# Altium integrated library Zarlink Comm PCM Circuit.IntLib: 10 symbols
Pins are listed as number, name and electrical type; pins without a type are passive.

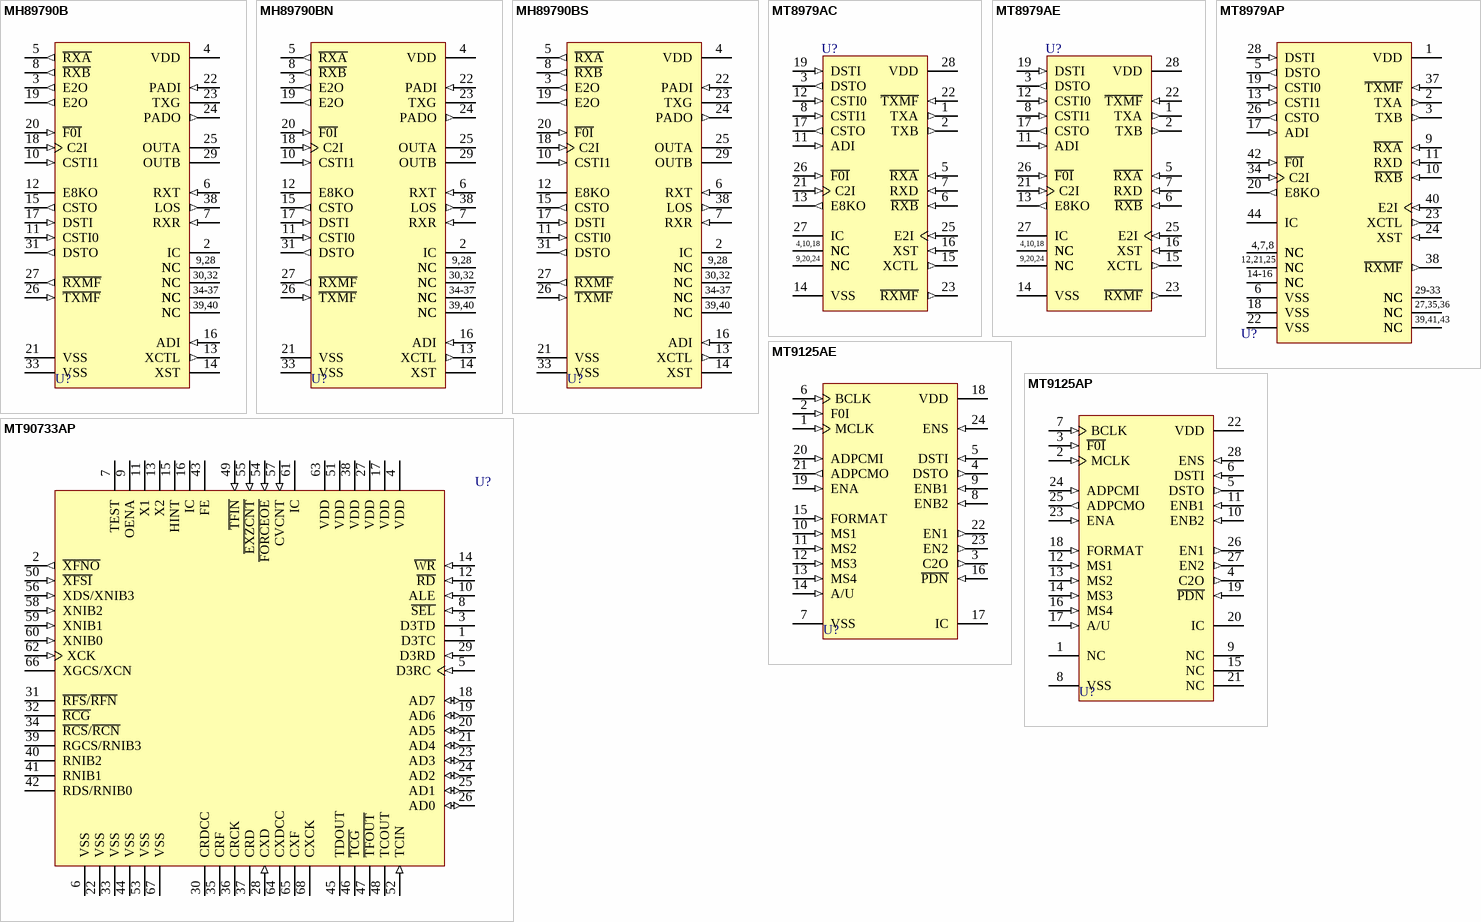
[diagram p0: symbols MH89790B to MT90733AP]

## MH89790B
designator U?
CEPT PCM 30/CRC-4 Framer & Interface; Note: Pin 1 is not present; Published: 8-Jun-2000; LatestRevisionDate: 17-Jul-2002; LatestRevisionNote: Re-released for DXP Platform.; DatasheetVersion: Issue 5 May 1995; PackageReference: DIL40B; Publisher: Altium Limited; PackageDescription: DIP; 40 Leads (1 Absent); Row Spacing 33 mm; Pitch 2.54 mm; ComponentLink1Description: Manufacturer Link; ComponentLink1URL: http://www.zarlink.com/; ComponentLink2Description: Datasheet; ComponentLink2URL: http://assets.zarlink.com/DS/zarlink_MH89790B_APR_03.pdf
footprint DIL40B (DIP; 40 Leads (1 Absent); Row Spacing 33 mm; Pitch 2.54 mm)
pins: 2 IC, 3 E2O (out), 4 VDD (power), 5 ~{RXA} (out), 6 RXT (in), 7 RXR (in), 8 ~{RXB} (out), 9 NC, 10 CSTI1 (in), 11 CSTI0 (in), 12 E8KO (hiz), 13 XCTL (out), 14 XST, 15 CSTO (out), 16 ADI (in), 17 DSTI (in), 18 C2I (in), 19 E2O (out), 20 ~{F0I} (in), 21 VSS (power), 22 PADI (in), 23 TXG, 24 PADO (out), 25 OUTA (oc), 26 ~{TXMF} (in), 27 ~{RXMF} (out), 28 NC, 29 OUTB (oc), 30 NC, 31 DSTO (out), 32 NC, 33 VSS (power), 34 NC, 35 NC, 36 NC, 37 NC, 38 LOS (out), 39 NC, 40 NC
text: 9,28; 30,32; 34-37; 39,40

## MH89790BN
designator U?
CEPT PCM 30/CRC-4 Framer & Interface; Note: Pin 1 is not present; Published: 8-Jun-2000; LatestRevisionDate: 17-Jul-2002; LatestRevisionNote: Re-released for DXP Platform.; DatasheetVersion: Issue 5 May 1995; PackageReference: DIL40C; Publisher: Altium Limited; PackageDescription: DIP; 40 Leads (1 Absent); Row Spacing 20.32 mm; Pitch 2.54 mm; ComponentLink1Description: Manufacturer Link; ComponentLink1URL: http://www.zarlink.com/; ComponentLink2Description: Datasheet; ComponentLink2URL: http://assets.zarlink.com/DS/zarlink_MH89790B_APR_03.pdf
footprint DIL40C (DIP; 40 Leads (1 Absent); Row Spacing 20.32 mm; Pitch 2.54 mm)
pins: 2 IC, 3 E2O (out), 4 VDD (power), 5 ~{RXA} (out), 6 RXT (in), 7 RXR (in), 8 ~{RXB} (out), 9 NC, 10 CSTI1 (in), 11 CSTI0 (in), 12 E8KO (hiz), 13 XCTL (out), 14 XST, 15 CSTO (out), 16 ADI (in), 17 DSTI (in), 18 C2I (in), 19 E2O (out), 20 ~{F0I} (in), 21 VSS (power), 22 PADI (in), 23 TXG, 24 PADO (out), 25 OUTA (oc), 26 ~{TXMF} (in), 27 ~{RXMF} (out), 28 NC, 29 OUTB (oc), 30 NC, 31 DSTO (out), 32 NC, 33 VSS (power), 34 NC, 35 NC, 36 NC, 37 NC, 38 LOS (out), 39 NC, 40 NC
text: 9,28; 30,32; 34-37; 39,40

## MH89790BS
designator U?
CEPT PCM 30/CRC-4 Framer & Interface; Note: Pin 1 is not present; Published: 8-Jun-2000; LatestRevisionDate: 13-Apr-2006; LatestRevisionNote: IPC-7351 Footprint Added.; DatasheetVersion: Issue 5 May 1995; PackageReference: DIL40D; Publisher: Altium Limited; PackageDescription: 40-Pin Small Outline Package 2.54 mm Pitch; ComponentLink1Description: Manufacturer Link; ComponentLink1URL: http://www.zarlink.com/; ComponentLink2Description: Datasheet; ComponentLink2URL: http://assets.zarlink.com/DS/zarlink_MH89790B_APR_03.pdf
footprint DIL40D_N (SOP, 40-Leads, Body 50.8x16.7mm, Pitch 2.54mm, IPC Medium Density)
footprint DIL40D_L (SOP, 40-Leads, Body 50.8x16.7mm, Pitch 2.54mm, IPC High Density)
footprint DIL40D_M (SOP, 40-Leads, Body 50.8x16.7mm, Pitch 2.54mm, IPC Low Density)
pins: 2 IC, 3 E2O (out), 4 VDD (power), 5 ~{RXA} (out), 6 RXT (in), 7 RXR (in), 8 ~{RXB} (out), 9 NC, 10 CSTI1 (in), 11 CSTI0 (in), 12 E8KO (hiz), 13 XCTL (out), 14 XST, 15 CSTO (out), 16 ADI (in), 17 DSTI (in), 18 C2I (in), 19 E2O (out), 20 ~{F0I} (in), 21 VSS (power), 22 PADI (in), 23 TXG, 24 PADO (out), 25 OUTA (oc), 26 ~{TXMF} (in), 27 ~{RXMF} (out), 28 NC, 29 OUTB (oc), 30 NC, 31 DSTO (out), 32 NC, 33 VSS (power), 34 NC, 35 NC, 36 NC, 37 NC, 38 LOS (out), 39 NC, 40 NC
text: 9,28; 30,32; 34-37; 39,40

## MT8979AC
designator U?
CEPT PCM 30/CRC-4 Framer & Interface; Note: Tie pin 27 to VSS for normal operation; Published: 8-Jun-2000; LatestRevisionDate: 17-Jul-2002; LatestRevisionNote: Re-released for DXP Platform.; DatasheetVersion: Issue 7 May 1995; PackageVersion: 1995; PackageReference: CDIP28; Publisher: Altium Limited; PackageDescription: DIP; 28 Leads; Row Spacing 15.24 mm; Pitch 2.54 mm; ComponentLink1Description: Manufacturer Link; ComponentLink1URL: http://www.zarlink.com/; ComponentLink2Description: Datasheet; ComponentLink2URL: http://assets.zarlink.com/DS/zarlink_MT8979_FEB_05.pdf
footprint CDIP28 (DIP; 28 Leads; Row Spacing 15.24 mm; Pitch 2.54 mm)
pins: 1 TXA (out), 2 TXB (out), 3 DSTO (out), 4 NC, 5 ~{RXA} (in), 6 ~{RXB} (in), 7 RXD (in), 8 CSTI1 (in), 9 NC, 10 NC, 11 ADI (in), 12 CSTI0 (in), 13 E8KO (out), 14 VSS (power), 15 XCTL (out), 16 XST (in), 17 CSTO (out), 18 NC, 19 DSTI (in), 20 NC, 21 C2I (in), 22 ~{TXMF} (in), 23 ~{RXMF} (out), 24 NC, 25 E2I (in), 26 ~{F0I} (in), 27 IC, 28 VDD (power)
text: 4,10,18; 9,20,24

## MT8979AE
designator U?
CEPT PCM 30/CRC-4 Framer & Interface; Note: Tie pin 27 to VSS for normal operation; Published: 8-Jun-2000; LatestRevisionDate: 17-Jul-2002; LatestRevisionNote: Re-released for DXP Platform.; DatasheetVersion: Issue 8 March 1997; PackageVersion: 1997; PackageReference: PDIP28; Publisher: Altium Limited; PackageDescription: DIP; 28 Leads; Row Spacing 15.24 mm; Pitch 2.54 mm; Code_JEDEC: MS-011-AB; ComponentLink1Description: Manufacturer Link; ComponentLink1URL: http://www.zarlink.com/; ComponentLink2Description: Datasheet; ComponentLink2URL: http://assets.zarlink.com/DS/zarlink_MT8979_FEB_05.pdf
footprint PDIP28 (DIP; 28 Leads; Row Spacing 15.24 mm; Pitch 2.54 mm)
pins: 1 TXA (out), 2 TXB (out), 3 DSTO (out), 4 NC, 5 ~{RXA} (in), 6 ~{RXB} (in), 7 RXD (in), 8 CSTI1 (in), 9 NC, 10 NC, 11 ADI (in), 12 CSTI0 (in), 13 E8KO (out), 14 VSS (power), 15 XCTL (out), 16 XST (in), 17 CSTO (out), 18 NC, 19 DSTI (in), 20 NC, 21 C2I (in), 22 ~{TXMF} (in), 23 ~{RXMF} (out), 24 NC, 25 E2I (in), 26 ~{F0I} (in), 27 IC, 28 VDD (power)
text: 4,10,18; 9,20,24

## MT8979AP
designator U?
CEPT PCM 30/CRC-4 Framer & Interface; Note: Tie pin 44 to VSS for normal operation; Published: 8-Jun-2000; LatestRevisionDate: 13-Apr-2006; LatestRevisionNote: IPC-7351 Footprint Added.; DatasheetVersion: Issue 8 March 1997; PackageVersion: 1997; PackageReference: PLCC44; Publisher: Altium Limited; PackageDescription: 44-Pin Leaded Chip Carrier 1.27 mm Pitch; Code_IPC: PLCC-44; ComponentLink1Description: Manufacturer Link; ComponentLink1URL: http://www.zarlink.com/; ComponentLink2Description: Datasheet; ComponentLink2URL: http://assets.zarlink.com/DS/zarlink_MT8979_FEB_05.pdf
footprint PLCC44_N (Leaded Chip Carrier, 44-Leads, Body 16.6x16.6mm, Pitch 1.27mm, IPC Medium Density)
footprint PLCC44_L (Leaded Chip Carrier, 44-Leads, Body 16.6x16.6mm, Pitch 1.27mm, IPC High Density)
footprint PLCC44_M (Leaded Chip Carrier, 44-Leads, Body 16.6x16.6mm, Pitch 1.27mm, IPC Low Density)
pins: 1 VDD (power), 2 TXA (out), 3 TXB (out), 4 NC, 5 DSTO (out), 6 VSS (power), 7 NC, 8 NC, 9 ~{RXA} (in), 10 ~{RXB} (in), 11 RXD (in), 12 NC, 13 CSTI1 (in), 14 NC, 15 NC, 16 NC, 17 ADI (in), 18 VSS (power), 19 CSTI0 (in), 20 E8KO (out), 21 NC, 22 VSS (power), 23 XCTL (out), 24 XST (in), 25 NC, 26 CSTO (out), 27 NC, 28 DSTI (in), 29 NC, 30 NC, 31 NC, 32 NC, 33 NC, 34 C2I (in), 35 NC, 36 NC, 37 ~{TXMF} (in), 38 ~{RXMF} (out), 39 NC, 40 E2I (in), 41 NC, 42 ~{F0I} (in), 43 NC, 44 IC
text: 4,7,8; 12,21,25; 14-16; 29-33; 27,35,36; 39,41,43

## MT9125AE
designator U?
Dual ADPCM Transcoder; Note: Tie pin 17 to VSS for normal operation; Published: 8-Jun-2000; LatestRevisionDate: 17-Jul-2002; LatestRevisionNote: Re-released for DXP Platform.; DatasheetVersion: Issue 3 August 1993; PackageVersion: 1997; PackageReference: PDIP24; Publisher: Altium Limited; PackageDescription: DIP; 24 Leads; Row Spacing 15.24 mm; Pitch 2.54 mm; Code_JEDEC: MS-011-AA; ComponentLink1Description: Manufacturer Link; ComponentLink1URL: http://www.zarlink.com/; ComponentLink2Description: Datasheet; ComponentLink2URL: http://assets.zarlink.com/DS/zarlink_MT9125_JAN_01.pdf
footprint PDIP24 (DIP; 24 Leads; Row Spacing 15.24 mm; Pitch 2.54 mm)
pins: 1 MCLK (in), 2 F0I (in), 3 C2O (out), 4 DSTO (out), 5 DSTI (in), 6 BCLK (in), 7 VSS (power), 8 ENB2 (in), 9 ENB1 (in), 10 MS1 (in), 11 MS2 (in), 12 MS3 (in), 13 MS4 (in), 14 A/U (in), 15 FORMAT (in), 16 ~{PDN} (in), 17 IC, 18 VDD (power), 19 ENA (in), 20 ADPCMI (in), 21 ADPCMO (out), 22 EN1 (out), 23 EN2 (out), 24 ENS (in)

## MT9125AP
designator U?
Dual ADPCM Transcoder; Note: Tie pin 20 to VSS for normal operation; Published: 8-Jun-2000; LatestRevisionDate: 13-Apr-2006; LatestRevisionNote: IPC-7351 Footprint Added.; DatasheetVersion: Issue 3 August 1993; PackageVersion: 1997; PackageReference: PLCC28; Publisher: Altium Limited; PackageDescription: 28-Pin Leaded Chip Carrier 1.27 mm Pitch; Code_IPC: PLCC-28; ComponentLink1Description: Manufacturer Link; ComponentLink1URL: http://www.zarlink.com/; ComponentLink2Description: Datasheet; ComponentLink2URL: http://assets.zarlink.com/DS/zarlink_MT9125_JAN_01.pdf
footprint PLCC28_N (Leaded Chip Carrier, 28-Leads, Body 11.5x11.5mm, Pitch 1.27mm, IPC Medium Density)
footprint PLCC28_L (Leaded Chip Carrier, 28-Leads, Body 11.5x11.5mm, Pitch 1.27mm, IPC High Density)
footprint PLCC28_M (Leaded Chip Carrier, 28-Leads, Body 11.5x11.5mm, Pitch 1.27mm, IPC Low Density)
pins: 1 NC, 2 MCLK (in), 3 ~{F0I} (in), 4 C2O (out), 5 DSTO (out), 6 DSTI (in), 7 BCLK (in), 8 VSS (power), 9 NC, 10 ENB2 (in), 11 ENB1 (in), 12 MS1 (in), 13 MS2 (in), 14 MS3 (in), 15 NC, 16 MS4 (in), 17 A/U (in), 18 FORMAT (in), 19 ~{PDN} (in), 20 IC, 21 NC, 22 VDD (power), 23 ENA (in), 24 ADPCMI (in), 25 ADPCMO (out), 26 EN1 (out), 27 EN2 (out), 28 ENS (in)

## MT90733AP
designator U?
DS3 Framer (DS3F); Note: Pins 7 and 16 should be left open;  pin 61 is set to HIGH for normsl operation.; Published: 8-Jun-2000; LatestRevisionDate: 13-Apr-2006; LatestRevisionNote: IPC-7351 Footprint Added.; DatasheetVersion: Issue 3 January 1996; PackageVersion: 1997; PackageReference: PLCC68; Publisher: Altium Limited; PackageDescription: 68-Pin Leaded Chip Carrier 1.27 mm Pitch; Code_IPC: PLCC-68; ComponentLink1Description: Manufacturer Link; ComponentLink1URL: http://www.zarlink.com/
footprint PLCC68_N (Leaded Chip Carrier, 68-Leads, Body 24x24mm, Pitch 1.27mm, IPC Medium Density)
footprint PLCC68_L (Leaded Chip Carrier, 68-Leads, Body 24x24mm, Pitch 1.27mm, IPC High Density)
footprint PLCC68_M (Leaded Chip Carrier, 68-Leads, Body 24x24mm, Pitch 1.27mm, IPC Low Density)
pins: 1 D3TC (hiz), 2 ~{XFNO} (out), 3 D3TD (hiz), 4 VDD (power), 5 D3RC (in), 6 VSS (power), 7 TEST, 8 ~{SEL} (in), 9 OENA (hiz), 10 ALE (in), 11 X1 (hiz), 12 ~{RD} (in), 13 X2 (hiz), 14 ~{WR} (in), 15 HINT (hiz), 16 IC, 17 VDD (power), 18 AD7 (io), 19 AD6 (io), 20 AD5 (io), 21 AD4 (io), 22 VSS (power), 23 AD3 (io), 24 AD2 (io), 25 AD1 (io), 26 AD0 (io), 27 VDD (power), 28 CXD (in), 29 D3RD (in), 30 CRDCC (hiz), 31 ~{RFS}/~{RFN} (hiz), 32 ~{RCG} (hiz), 33 VSS (power), 34 ~{RCS}/~{RCN} (hiz), 35 CRF (hiz), 36 CRCK (hiz), 37 CRD (hiz), 38 VDD (power), 39 RGCS/RNIB3 (hiz), 40 RNIB2 (hiz), 41 RNIB1 (hiz), 42 RDS/RNIB0 (hiz), 43 FE (hiz), 44 VSS (power), 45 TDOUT (hiz), 46 ~{TCG} (hiz), 47 ~{TFOUT} (hiz), 48 TCOUT (hiz), 49 ~{TFIN} (in), 50 ~{XFSI} (in), 51 VDD (power), 52 TCIN (in), 53 VSS (power), 54 ~{FORCEOE} (in), 55 ~{EXZCNT} (in), 56 XDS/XNIB3 (in), 57 CVCNT (in), 58 XNIB2 (in), 59 XNIB1 (in), 60 XNIB0 (in), 61 IC, 62 XCK (in), 63 VDD (power), 64 CXDCC (hiz), 65 CXF (hiz), 66 XGCS/XCN (hiz), 67 VSS (power), 68 CXCK (hiz)

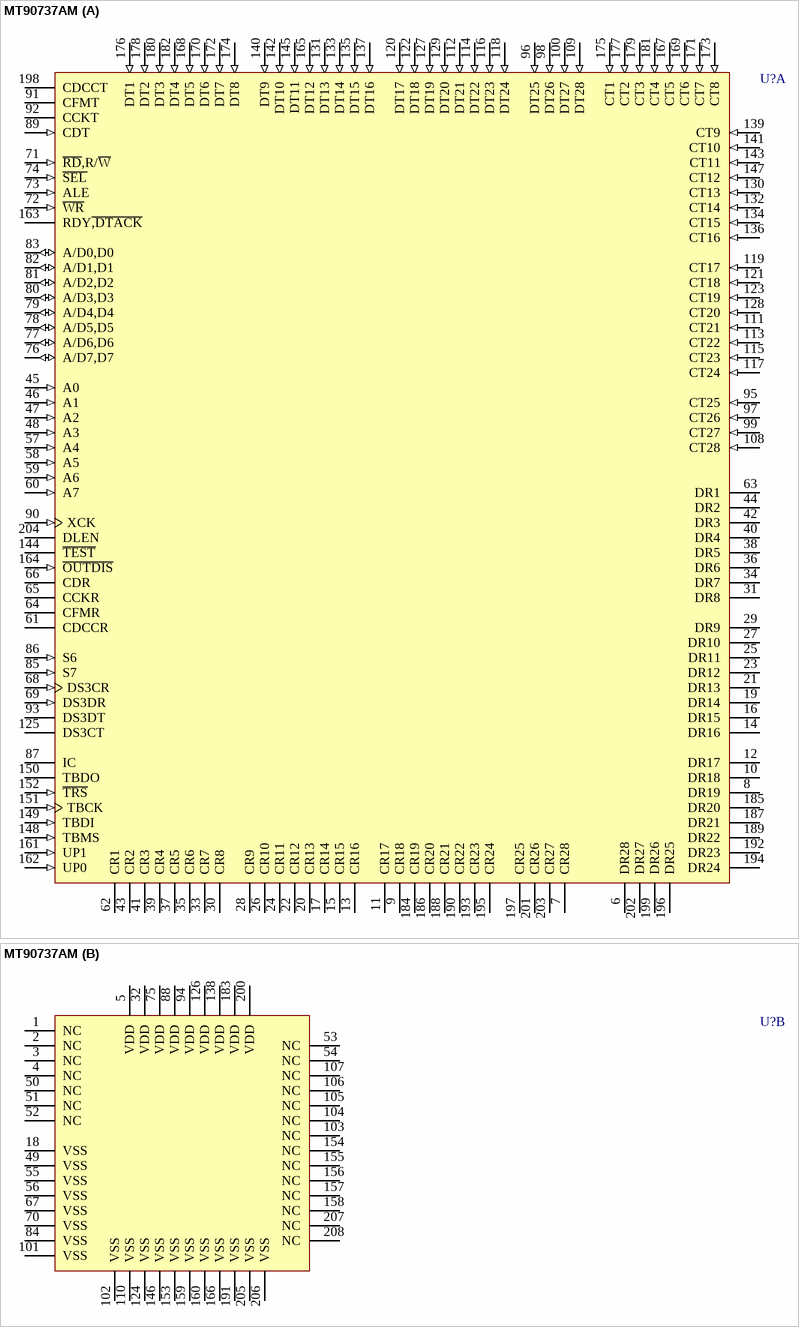
[diagram p1: symbol MT90737AM]

## MT90737AM
designator U?
DS3/DS1 MUX/DEMUX (M13); Note: Pins 1-4, 50-54, 87, 103-107, 144, 154-158, 207 and 208 should be left open; Published: 8-Jun-2000; LatestRevisionDate: 13-Apr-2006; LatestRevisionNote: IPC-7351 Footprint Added.; DatasheetVersion: Issue 1 June 1995; PackageVersion: Jun-1995; PackageReference: PQFP208; Publisher: Altium Limited; PackageDescription: 208-Pin Shrink Quad Flat Pack 0.5 mm Pitch; ComponentLink1Description: Manufacturer Link; ComponentLink1URL: http://www.zarlink.com/
footprint PQFP208_N (Shrink QFP, 208-Leads, Body 28x28mm, Pitch 0.5mm, IPC Medium Density)
footprint PQFP208_L (Shrink QFP, 208-Leads, Body 28x28mm, Pitch 0.5mm, IPC High Density)
footprint PQFP208_M (Shrink QFP, 208-Leads, Body 28x28mm, Pitch 0.5mm, IPC Low Density)
part A pins: 6 DR28 (hiz), 7 CR28 (hiz), 8 DR19 (hiz), 9 CR18 (hiz), 10 DR18 (hiz), 11 CR17 (hiz), 12 DR17 (hiz), 13 CR16 (hiz), 14 DR16 (hiz), 15 CR15 (hiz), 16 DR15 (hiz), 17 CR14 (hiz), 19 DR14 (hiz), 20 CR13 (hiz), 21 DR13 (hiz), 22 CR12 (hiz), 23 DR12 (hiz), 24 CR11 (hiz), 25 DR11 (hiz), 26 CR10 (hiz), 27 DR10 (hiz), 28 CR9 (hiz), 29 DR9 (hiz), 30 CR8 (hiz), 31 DR8 (hiz), 33 CR7 (hiz), 34 DR7 (hiz), 35 CR6 (hiz), 36 DR6 (hiz), 37 CR5 (hiz), 38 DR5 (hiz), 39 CR4 (hiz), 40 DR4 (hiz), 41 CR3 (hiz), 42 DR3 (hiz), 43 CR2 (hiz), 44 DR2 (hiz), 45 A0 (in), 46 A1 (in), 47 A2 (in), 48 A3 (in), 57 A4 (in), 58 A5 (in), 59 A6 (in), 60 A7 (in), 61 CDCCR (hiz), 62 CR1 (hiz), 63 DR1 (hiz), 64 CFMR (hiz), 65 CCKR (hiz), 66 CDR (hiz), 68 DS3CR (in), 69 DS3DR (in), 71 ~{RD},R/~{W} (in), 72 ~{WR} (in), 73 ALE (in), 74 ~{SEL} (in), 76 A/D7,D7 (io), 77 A/D6,D6 (io), 78 A/D5,D5 (io), 79 A/D4,D4 (io), 80 A/D3,D3 (io), 81 A/D2,D2 (io), 82 A/D1,D1 (io), 83 A/D0,D0 (io), 85 S7 (in), 86 S6 (in), 87 IC, 89 CDT (in), 90 XCK (in), 91 CFMT (hiz), 92 CCKT (hiz), 93 DS3DT (hiz), 95 CT25 (in), 96 DT25 (in), 97 CT26 (in), 98 DT26 (in), 99 CT27 (in), 100 DT27 (in), 108 CT28 (in), 109 DT28 (in), 111 CT21 (in), 112 DT21 (in), 113 CT22 (in), 114 DT22 (in), 115 CT23 (in), 116 DT23 (in), 117 CT24 (in), 118 DT24 (in), 119 CT17 (in), 120 DT17 (in), 121 CT18 (in), 122 DT18 (in), 123 CT19 (in), 125 DS3CT (hiz), 127 DT19 (in), 128 CT20 (in), 129 DT20 (in), 130 CT13 (in), 131 DT13 (in), 132 CT14 (in), 133 DT14 (in), 134 CT15 (in), 135 DT15 (in), 136 CT16 (in), 137 DT16 (in), 139 CT9 (in), 140 DT9 (in), 141 CT10 (in), 142 DT10 (in), 143 CT11 (in), 144 ~{TEST}, 145 DT11 (in), 147 CT12 (in), 148 TBMS (in), 149 TBDI (in), 150 TBDO (hiz), 151 TBCK (in), 152 ~{TRS} (in), 161 UP1 (in), 162 UP0 (in), 163 RDY~{,DTACK} (oc), 164 ~{OUTDIS} (in), 165 DT12 (in), 167 CT5 (in), 168 DT5 (in), 169 CT6 (in), 170 DT6 (in), 171 CT7 (in), 172 DT7 (in), 173 CT8 (in), 174 DT8 (in), 175 CT1 (in), 176 DT1 (in), 177 CT2 (in), 178 DT2 (in), 179 CT3 (in), 180 DT3 (in), 181 CT4 (in), 182 DT4 (in), 184 CR19 (hiz), 185 DR20 (hiz), 186 CR20 (hiz), 187 DR21 (hiz), 188 CR21 (hiz), 189 DR22 (hiz), 190 CR22 (hiz), 192 DR23 (hiz), 193 CR23 (hiz), 194 DR24 (hiz), 195 CR24 (hiz), 196 DR25 (hiz), 197 CR25 (hiz), 198 CDCCT (hiz), 199 DR26 (hiz), 201 CR26 (hiz), 202 DR27 (hiz), 203 CR27 (hiz), 204 DLEN
part B pins: 1 NC, 2 NC, 3 NC, 4 NC, 5 VDD (power), 18 VSS (power), 32 VDD (power), 49 VSS (power), 50 NC, 51 NC, 52 NC, 53 NC, 54 NC, 55 VSS (power), 56 VSS (power), 67 VSS (power), 70 VSS (power), 75 VDD (power), 84 VSS (power), 88 VDD (power), 94 VDD (power), 101 VSS (power), 102 VSS (power), 103 NC, 104 NC, 105 NC, 106 NC, 107 NC, 110 VSS (power), 124 VSS (power), 126 VDD (power), 138 VDD (power), 146 VSS (power), 153 VSS (power), 154 NC, 155 NC, 156 NC, 157 NC, 158 NC, 159 VSS (power), 160 VSS (power), 166 VSS (power), 183 VDD (power), 191 VSS (power), 200 VDD (power), 205 VSS (power), 206 VSS (power), 207 NC, 208 NC